# Altium schematic symbol library AD7829BRZ.SchLib: 1 symbol
Pins are listed as number, name and electrical type; pins without a type are passive.

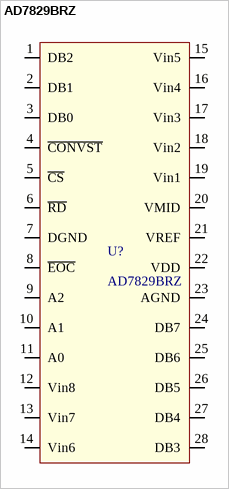
[diagram p0: symbol AD7829BRZ]

## AD7829BRZ
designator U?
Analog to Digital Converter
pins: 1 DB2, 2 DB1, 3 DB0, 4 ~{CONVST}, 5 ~{CS}, 6 ~{RD}, 7 DGND, 8 ~{EOC}, 9 A2, 10 A1, 11 A0, 12 Vin8, 13 Vin7, 14 Vin6, 15 Vin5, 16 Vin4, 17 Vin3, 18 Vin2, 19 Vin1, 20 VMID, 21 VREF, 22 VDD, 23 AGND, 24 DB7, 25 DB6, 26 DB5, 27 DB4, 28 DB3